# Altium schematic symbol library Конденсаторы-mm.SchLib: 101 symbols
Pins are listed as number, name and electrical type; pins without a type are passive.

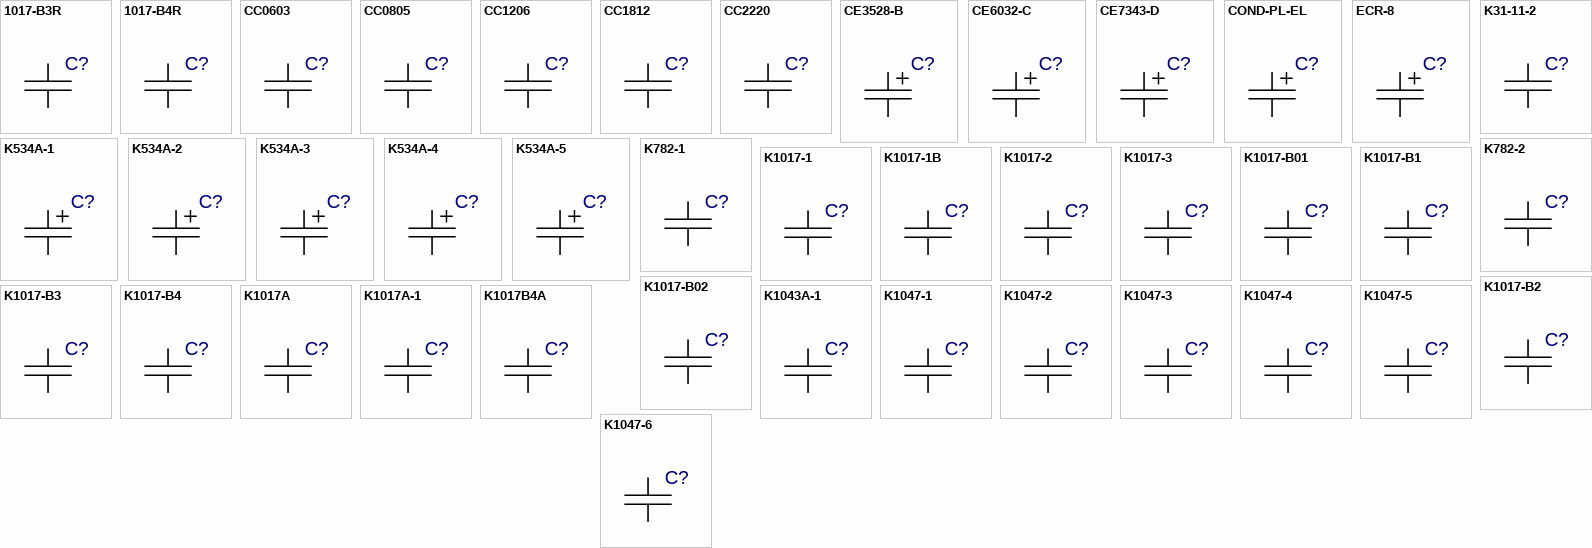
[diagram p0: symbols 1017-B3R to K1047-6]

## 1017-B3R
designator C?  (value not drawn)
PDIF_TY: 11201; Value: *
footprint 1017-B3R
pins: 1 I/OA, 2 I/OB

## 1017-B4R
designator C?  (value not drawn)
PDIF_TY: 11201; Value: *
footprint 1017-B4R
pins: 1 I/OA, 2 I/OB

## CC0603
designator C?  (value not drawn)
Value: *
footprint CC0603
pins: 1 i/o1, 2 i/o

## CC0805
designator C?  (value not drawn)
Value: *
footprint CC0805
pins: 1 i/o1, 2 i/o

## CC1206
designator C?  (value not drawn)
Value: *
footprint CC1206
pins: 1 i/o, 2 i/o1

## CC1812
designator C?  (value not drawn)
Value: *
footprint CC1812
pins: 1, 2

## CC2220
designator C?  (value not drawn)
Value: *
footprint CC2220
pins: 1, 2

## CE3528-B
designator C?  (value not drawn)
Value: *
footprint CE3528-B
pins: 1 i/o, 2 i/o1

## CE6032-C
designator C?  (value not drawn)
Value: *
footprint CE6032_C
pins: 1, 2

## CE7343-D
designator C?  (value not drawn)
Value: *
footprint CE7343-D
pins: 1, 2

## COND-PL-EL
designator C?  (value not drawn)
Value: *
footprint CC-PL-EL1
pins: 1 i/o, 2 i/o1

## ECR-8
designator C?  (value not drawn)
Value: *
footprint ECR-8
pins: 1 I/OA, 2 I/OB

## K31-11-2
designator C?  (value not drawn)
PDIF_TY: 11212; Value: *
footprint K31-11-2
pins: 1 I/OA, 2 I/OB

## K534A-1
designator C?  (value not drawn)
PDIF_TY: 11245; Value: *
footprint K534A-1
pins: 1 I/OA, 2 I/OB

## K534A-2
designator C?  (value not drawn)
PDIF_TY: 11245; Value: *
footprint K534A-2
pins: 1 I/OA, 2 I/OB

## K534A-3
designator C?  (value not drawn)
PDIF_TY: 11245; Value: *
footprint K534A-3
pins: 1 I/OA, 2 I/OB

## K534A-4
designator C?  (value not drawn)
PDIF_TY: 11245; Value: *
footprint K534A-4
pins: 1 I/OA, 2 I/OB

## K534A-5
designator C?  (value not drawn)
PDIF_TY: 11245; Value: *
footprint K534A-5
pins: 1 I/OA, 2 I/OB

## K782-1
designator C?  (value not drawn)
PDIF_TY: 11213; Value: *
footprint K782-1
pins: 1 I/OA, 2 I/OB

## K782-2
designator C?  (value not drawn)
PDIF_TY: 11213; Value: *
footprint K782-2
pins: 1 I/OA, 2 I/OB

## K1017-1
designator C?  (value not drawn)
PDIF_TY: 11213; Value: *
footprint K1017-1_K1017-1A
footprint K1017-1_K1017-R
footprint K1017-1_Primary
pins: 1 I/OA, 2 I/OB

## K1017-1B
designator C?  (value not drawn)
PDIF_TY: 11213; Value: *
footprint K1017-1B
pins: 1 I/OA, 2 I/OB

## K1017-2
designator C?  (value not drawn)
PDIF_TY: 11213; Value: *
footprint K1017-2
pins: 1 I/OA, 2 I/OB

## K1017-3
designator C?  (value not drawn)
PDIF_TY: 11213; Value: *
footprint K1017-3_K1017-3R
footprint K1017-3_Primary
pins: 1 I/OA, 2 I/OB

## K1017-B01
designator C?  (value not drawn)
Value: *
footprint K1017-B01
pins: 1 I/OA, 2 I/OB

## K1017-B1
designator C?  (value not drawn)
PDIF_TY: 11213; Value: *
footprint K1017-B1
pins: 1 I/OA, 2 I/OB

## K1017-B02
designator C?  (value not drawn)
Value: *
footprint K1017-B02
pins: 1 I/OA, 2 I/OB

## K1017-B2
designator C?  (value not drawn)
PDIF_TY: 11213; Value: *
footprint K1017-B2
pins: 1 I/OA, 2 I/OB

## K1017-B3
designator C?  (value not drawn)
PDIF_TY: 11213; Value: *
footprint K1017-B3
pins: 1 I/OA, 2 I/OB

## K1017-B4
designator C?  (value not drawn)
PDIF_TY: 11213; Value: *
footprint K1017-B4
pins: 1 I/OA, 2 I/OB

## K1017A
designator C?  (value not drawn)
Value: *
footprint K1017A
pins: 1 i/o, 2 i/o1

## K1017A-1
designator C?  (value not drawn)
Value: *
footprint K1017A-1
pins: 1 i/o, 2 i/o1

## K1017B4A
designator C?  (value not drawn)
PDIF_TY: 11213; Value: *
footprint K1017B4A
pins: 1 I/OA, 2 I/OB

## K1043A-1
designator C?  (value not drawn)
Value: *
footprint K1043A-1
pins: 1 i/o1, 2 i/o

## K1047-1
designator C?  (value not drawn)
PDIF_TY: 11213; Value: *
footprint K1047-1
pins: 1 I/OA, 2 I/OB

## K1047-2
designator C?  (value not drawn)
PDIF_TY: 11213; Value: *
footprint K1047-2
pins: 1 I/OA, 2 I/OB

## K1047-3
designator C?  (value not drawn)
PDIF_TY: 11213; Value: *
footprint K1047-3
pins: 1 I/OA, 2 I/OB

## K1047-4
designator C?  (value not drawn)
PDIF_TY: 11213; Value: *
footprint K1047-4_K1047-4R
footprint K1047-4_Primary
pins: 1 I/OA, 2 I/OB

## K1047-5
designator C?  (value not drawn)
PDIF_TY: 11213; Value: *
footprint K1047-5_K1047-5R
footprint K1047-5_Primary
pins: 1 I/OA, 2 I/OB

## K1047-6
designator C?  (value not drawn)
PDIF_TY: 11213; Value: *
footprint K1047-6_K1047-6R
footprint K1047-6_Primary
pins: 1 I/OA, 2 I/OB

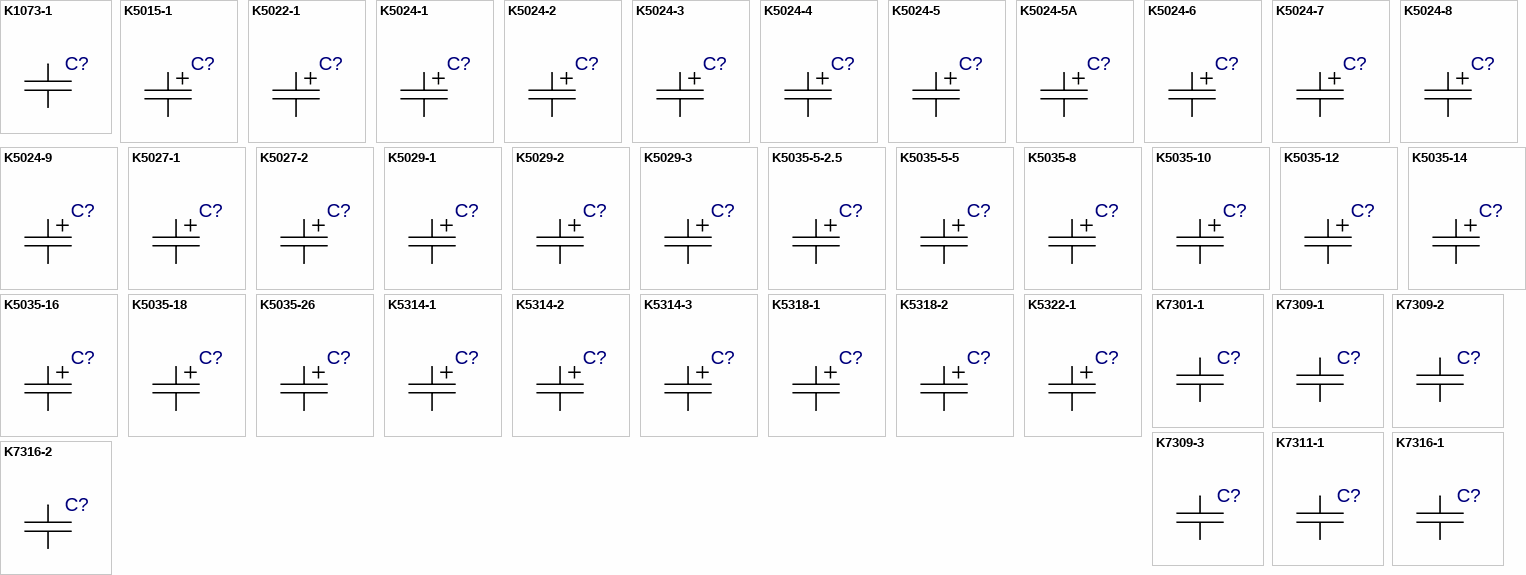
[diagram p1: symbols K1073-1 to K7316-2]

## K1073-1
designator C?  (value not drawn)
Value: *
footprint K1073-1
pins: 1 I/OA, 2 I/OB

## K5015-1
designator C?  (value not drawn)
PDIF_TY: 11213; Value: *
footprint K5015-1
pins: 1 I/OA, 2 I/OB

## K5022-1
designator C?  (value not drawn)
PDIF_TY: 11245; Value: *
footprint K5022-1
pins: 1 I/OA, 2 I/OB

## K5024-1
designator C?  (value not drawn)
PDIF_TY: 11245; Value: *
footprint K5024-1
pins: 1 I/OA, 2 I/OB

## K5024-2
designator C?  (value not drawn)
PDIF_TY: 11213; Value: *
footprint K5024-2
pins: 1 I/OA, 2 I/OB

## K5024-3
designator C?  (value not drawn)
PDIF_TY: 11213; Value: *
footprint K5024-3
pins: 1 I/OA, 2 I/OB

## K5024-4
designator C?  (value not drawn)
PDIF_TY: 11213; Value: *
footprint K5024-4
pins: 1 I/OA, 2 I/OB

## K5024-5
designator C?  (value not drawn)
PDIF_TY: 11213; Value: *
footprint K5024-5
pins: 1 I/OA, 2 I/OB

## K5024-5A
designator C?  (value not drawn)
PDIF_TY: 11213; Value: *
footprint K5024-5A
pins: 1 I/OA, 2 I/OB

## K5024-6
designator C?  (value not drawn)
PDIF_TY: 11213; Value: *
footprint K5024-6
pins: 1 I/OA, 2 I/OB, 3 hidden, 4 hidden, 5 hidden, 6 hidden

## K5024-7
designator C?  (value not drawn)
PDIF_TY: 11213; Value: *
footprint K5024-7
pins: 1 I/OA, 2 I/OB

## K5024-8
designator C?  (value not drawn)
PDIF_TY: 11213; Value: *
footprint K5024-8
pins: 1 I/OA, 2 I/OB

## K5024-9
designator C?  (value not drawn)
PDIF_TY: 11213; Value: *
footprint K5024-9
pins: 1 I/OA, 2 I/OB

## K5027-1
designator C?  (value not drawn)
PDIF_TY: 11213; Value: *
footprint K5027-1
pins: 1 I/OA, 2 I/OB

## K5027-2
designator C?  (value not drawn)
PDIF_TY: 11213; Value: *
footprint K5027-2
pins: 1 I/OA, 2 I/OB

## K5029-1
designator C?  (value not drawn)
PDIF_TY: 11213; Value: *
footprint K5029-1
pins: 1 I/OA, 2 I/OB

## K5029-2
designator C?  (value not drawn)
PDIF_TY: 11213; Value: *
footprint K5029-2
pins: 1 I/OA, 2 I/OB

## K5029-3
designator C?  (value not drawn)
PDIF_TY: 11213; Value: *
footprint K5029-3
pins: 1 I/OA, 2 I/OB

## K5035-5-2.5
designator C?  (value not drawn)
PDIF_TY: 11213; Value: *
footprint K5035A_K5035A-R
footprint K5035A_Primary
pins: 1 I/OA, 2 I/OB

## K5035-5-5
designator C?  (value not drawn)
PDIF_TY: 11213; Value: *
footprint K5035-1_K5035-1R
footprint K5035-1_K5035-1R1
footprint K5035-1_Primary
pins: 1 I/OA, 2 I/OB

## K5035-8
designator C?  (value not drawn)
PDIF_TY: 11213; Value: *
footprint K5035-2_K5035-2R
footprint K5035-2_K5035-2R1
footprint K5035-2_Primary
pins: 1 I/OA, 2 I/OB

## K5035-10
designator C?  (value not drawn)
PDIF_TY: 11213; Value: *
footprint K5035-3_K5035-3R
footprint K5035-3_K5035-3R1
footprint K5035-3_Primary
pins: 1 I/OA, 2 I/OB

## K5035-12
designator C?  (value not drawn)
PDIF_TY: 11213; Value: *
footprint K5035-4_K5035-4R
footprint K5035-4_Primary
pins: 1 I/OA, 2 I/OB

## K5035-14
designator C?  (value not drawn)
PDIF_TY: 11213; Value: *
footprint K5035-5_K5035-5R
footprint K5035-5_K5035-5R1
footprint K5035-5_Primary
pins: 1 I/OA, 2 I/OB

## K5035-16
designator C?  (value not drawn)
PDIF_TY: 11213; Value: *
footprint K5035-6_K5035-6R
footprint K5035-6_K5035-6R1
footprint K5035-6_Primary
pins: 1 I/OA, 2 I/OB

## K5035-18
designator C?  (value not drawn)
PDIF_TY: 11213; Value: *
footprint K5035-7_K5035-7R
footprint K5035-7_Primary
pins: 1 I/OA, 2 I/OB

## K5035-26
designator C?  (value not drawn)
PDIF_TY: 11213; Value: *
footprint K5035-8
pins: 1 I/OA, 2 I/OB

## K5314-1
designator C?  (value not drawn)
PDIF_TY: 11213; Value: *
footprint K5314-1
pins: 1 I/OA, 2 I/OB

## K5314-2
designator C?  (value not drawn)
PDIF_TY: 11213; Value: *
footprint K5314-2
pins: 1 I/OA, 2 I/OB

## K5314-3
designator C?  (value not drawn)
PDIF_TY: 11213; Value: *
footprint K5314-3
pins: 1 I/OA, 2 I/OB

## K5318-1
designator C?  (value not drawn)
Value: *
footprint K5318-1
pins: 1 i/o, 2 i/o1

## K5318-2
designator C?  (value not drawn)
Value: *
footprint K5318-2
pins: 1 i/o, 2 i/o1

## K5322-1
designator C?  (value not drawn)
PDIF_TY: 11213; Value: *
footprint K5322-1
pins: 1 I/OA, 2 I/OB

## K7301-1
designator C?  (value not drawn)
PDIF_TY: 11213; Value: *
footprint K7301-1
pins: 1 I/OA, 2 I/OB

## K7309-1
designator C?  (value not drawn)
PDIF_TY: 11213; Value: *
footprint K7309-1
pins: 1 I/OA, 2 I/OB

## K7309-2
designator C?  (value not drawn)
PDIF_TY: 11213; Value: *
footprint K7309-2
pins: 1 I/OA, 2 I/OB

## K7309-3
designator C?  (value not drawn)
Value: *
footprint K7309-3
pins: 1 i/o, 2 i/o1

## K7311-1
designator C?  (value not drawn)
Value: *
footprint K7311-1
pins: 1 i/o1, 2 i/o

## K7316-1
designator C?  (value not drawn)
PDIF_TY: 11213; Value: *
footprint K7316-1
pins: 1 I/OA, 2 I/OB

## K7316-2
designator C?  (value not drawn)
PDIF_TY: 11213; Value: *
footprint K7316-2
pins: 1 I/OA, 2 I/OB

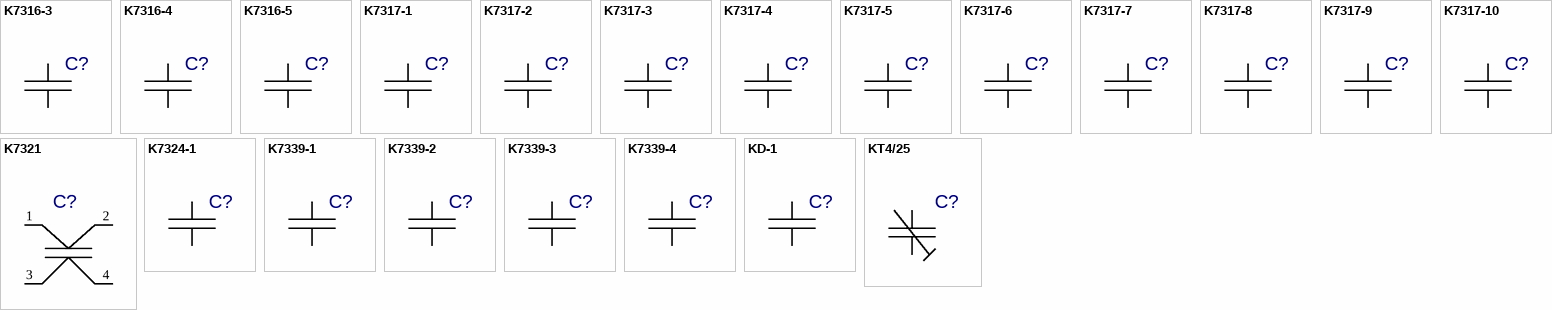
[diagram p2: symbols K7316-3 to KT4/25]

## K7316-3
designator C?  (value not drawn)
PDIF_TY: 11213; Value: *
footprint K7316-3
pins: 1 I/OA, 2 I/OB

## K7316-4
designator C?  (value not drawn)
PDIF_TY: 11213; Value: *
footprint K7316-4
pins: 1 I/OA, 2 I/OB

## K7316-5
designator C?  (value not drawn)
PDIF_TY: 11213; Value: *
footprint K7316-5
pins: 1 I/OA, 2 I/OB

## K7317-1
designator C?  (value not drawn)
PDIF_TY: 11213; Value: *
footprint K7317-1
pins: 1 I/OA, 2 I/OB

## K7317-2
designator C?  (value not drawn)
PDIF_TY: 11213; Value: *
footprint K7317-2
pins: 1 I/OA, 2 I/OB

## K7317-3
designator C?  (value not drawn)
PDIF_TY: 11213; Value: *
footprint K7317-3
pins: 1 I/OA, 2 I/OB

## K7317-4
designator C?  (value not drawn)
PDIF_TY: 11213; Value: *
footprint K7317-4
pins: 1 I/OA, 2 I/OB

## K7317-5
designator C?  (value not drawn)
PDIF_TY: 11213; Value: *
footprint K7317-5_K7317-5A
footprint K7317-5_Primary
pins: 1 I/OA, 2 I/OB

## K7317-6
designator C?  (value not drawn)
PDIF_TY: 11213; Value: *
footprint K7317-6
pins: 1 I/OA, 2 I/OB

## K7317-7
designator C?  (value not drawn)
PDIF_TY: 11213; Value: *
footprint K7317-7
pins: 1 I/OA, 2 I/OB

## K7317-8
designator C?  (value not drawn)
PDIF_TY: 11213; Value: *
footprint K7317-8
pins: 1 I/OA, 2 I/OB

## K7317-9
designator C?  (value not drawn)
PDIF_TY: 11213; Value: *
footprint K7317-9
pins: 1 I/OA, 2 I/OB

## K7317-10
designator C?  (value not drawn)
PDIF_TY: 11213; Value: *
footprint K7317-10
pins: 1 I/OA, 2 I/OB

## K7321
designator C?  (value not drawn)
PDIF_TY: 11237; Value: *
footprint K7321
pins: 1, 2, 3, 4

## K7324-1
designator C?  (value not drawn)
PDIF_TY: 11213; Value: *
footprint K7324-1
pins: 1 I/OA, 2 I/OB

## K7339-1
designator C?  (value not drawn)
PDIF_TY: 11213; Value: *
footprint K7339-1
pins: 1 I/OA, 2 I/OB

## K7339-2
designator C?  (value not drawn)
PDIF_TY: 11213; Value: *
footprint K7339-2
pins: 1 I/OA, 2 I/OB

## K7339-3
designator C?  (value not drawn)
PDIF_TY: 11213; Value: *
footprint K7339-3
pins: 1 I/OA, 2 I/OB

## K7339-4
designator C?  (value not drawn)
PDIF_TY: 11213; Value: *
footprint K7339-4
pins: 1 I/OA, 2 I/OB

## KD-1
designator C?  (value not drawn)
Value: *
footprint KD-1
pins: 1 i/o, 2 i/o1

## KT4/25
designator C?  (value not drawn)
Value: *
footprint KT4/25
pins: 1 i/o, 2 i/o1